# Altium footprint library Mosfet.PcbLib: 1 footprints
Each footprint in its own frame and in the unit in brackets; x right, y up, seen from the top. Pads: shape width x height; smd on the part's side, far side on the other; paste and mask are expansions set on the pad; w line width, h text height; cw(c..) or ccw(c..) is an arc to the next point about the centre after c.
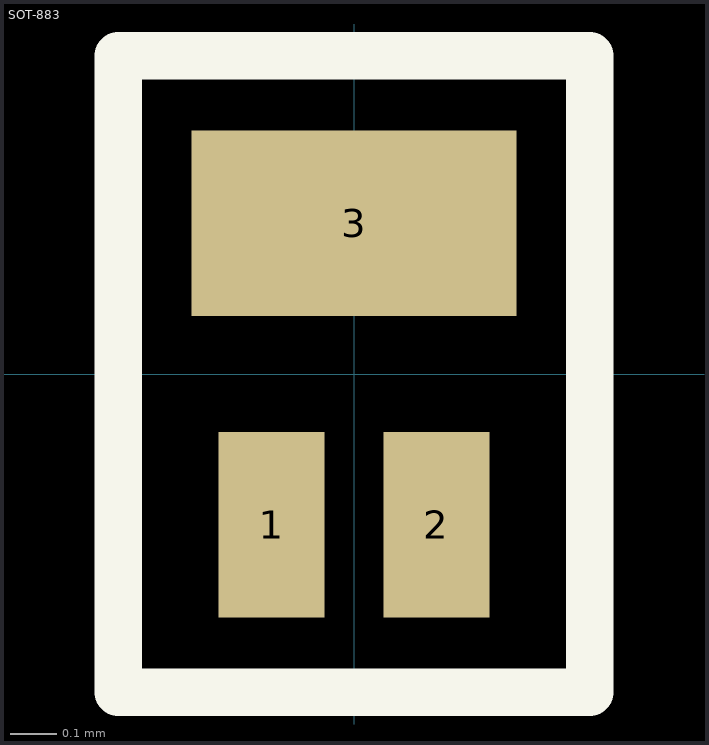
[diagram p0: the footprint, top view; thin cyan lines are the x and y axes]

## SOT-883 [mm]
pads (3):
  rect 0.229x0.4 smd: 1(-0.178,-0.325) 2(0.178,-0.325)
  rect 0.7x0.4 smd: 3(0,0.325)
Top Overlay:
  lines w0.102: -0.508,-0.686 -0.508,0.686 0.508,0.686 0.508,-0.686 -0.508,-0.686
3D body: height 0.4, standoff 0, extent -0.3,-0.5 0.3,0.5